# EAGLE library part MMA7455-MODULE (library userlib)
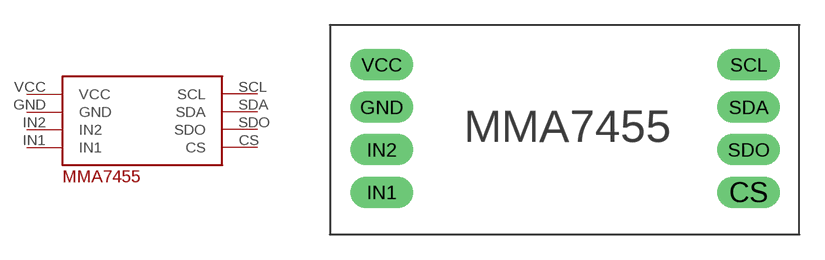
[diagram p7: symbol with the pads of MMA7455-MOD-FOOT; footprint MMA7455-MOD-FOOT]

Designator prefix -

## MMA7455-MODULE  [MMA7455-MOD-FOOT]
CS  CS
GND  GND
IN1  IN1
IN2  IN2
SCL  SCL
SDA  SDA
SDO  SDO
VCC  VCC

## Footprint MMA7455-MOD-FOOT (pad centres in mm)
drill 1.016 pad 1.88 long: CS 24.98,3.02; GND 3.09,8.1; IN1 3.09,3.02; IN2 3.09,5.56; SCL 24.98,10.64; SDA 24.98,8.1; SDO 24.98,5.56; VCC 3.09,10.64